# EAGLE library part MAX3235ECWP (library MAX3235ECWP)
RS232-Transceivers with Auto Shutdown and ESD
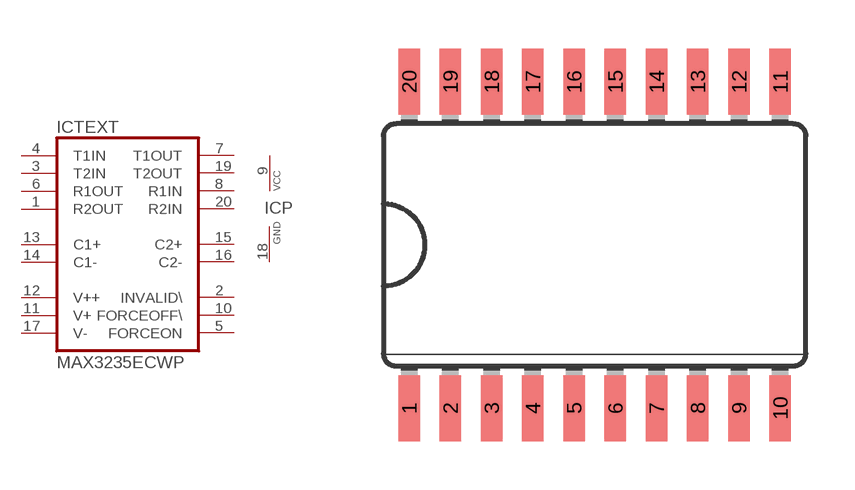
[diagram p0: symbol with the pads of SO20L; footprint SO20L]

Designator prefix IC; gates TEXT=MAX3235ECWP P=VCC-GND

## MAX3235ECWP  [SO20L]
1  TEXT:R2OUT  out
2  TEXT:INVALID\  out
3  TEXT:T2IN  in
4  TEXT:T1IN  in
5  TEXT:FORCEON  in
6  TEXT:R1OUT  out
7  TEXT:T1OUT  out
8  TEXT:R1IN  in
9  P:VCC  pwr
10  TEXT:FORCEOFF\  in
11  TEXT:V+  nc
12  TEXT:V++  nc
13  TEXT:C1+  nc
14  TEXT:C1-  nc
15  TEXT:C2+  nc
16  TEXT:C2-  nc
17  TEXT:V-  nc
18  P:GND  pwr
19  TEXT:T2OUT  out
20  TEXT:R2IN  in

## Footprint SO20L (pad centres in mm)
Small Outline Package
smd 0.66 x 2.032: 1 -5.715,-5.029; 2 -4.445,-5.029; 3 -3.175,-5.029; 4 -1.905,-5.029; 5 -0.635,-5.029; 6 0.635,-5.029; 7 1.905,-5.029; 8 3.175,-5.029; 9 4.445,-5.029; 10 5.715,-5.029; 11 5.715,5.029; 12 4.445,5.029; 13 3.175,5.029; 14 1.905,5.029; 15 0.635,5.029; 16 -0.635,5.029; 17 -1.905,5.029; 18 -3.175,5.029; 19 -4.445,5.029; 20 -5.715,5.029